# EAGLE library part USB3090-30-A (library USB3090-30-A)
GLOBAL CONNECTOR TECHNOLOGY - USB3090-30-A - MICRO USB, 2.0 TYPE AB, RECEPTACLE, SMT Source: Datasheet
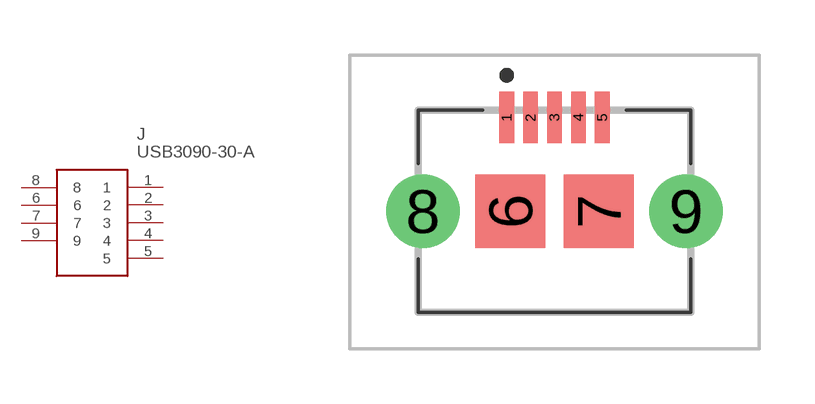
[diagram p0: symbol with the pads of USB309030A; footprint USB309030A]

Designator prefix J

## USB3090-30-A (Description: GLOBAL CONNECTOR TECHNOLOGY - USB3090-30-A - MICRO USB, 2.0 TYPE AB, RECEPTACLE, SMT; Height: 2.7mm; Manufacturer_Name: GCT (GLOBAL CONNECTOR TECHNOLOGY); Manufacturer_Part_Number: USB3090-30-A; Mouser_Part_Number: 640-USB3090-30-A; Mouser_Price-Stock: https://www.mouser.co.uk/ProductDetail/GCT/USB3090-30-A?qs=KUoIvG%2F9IlYVKroKzb3i8Q%3D%3D)  [USB309030A]
1  1
2  2
3  3
4  4
5  5
6  6
7  7
8  8
9  9

## Footprint USB309030A (pad centres in mm)
USB3090-30-A-2
smd 0.4 x 1.4: 1 -1.3,2.55; 2 -0.65,2.55; 3 0,2.55; 4 0.65,2.55; 5 1.3,2.55
smd 1.9 x 2: 6 -1.2,0; 7 1.2,0
drill 1.329 pad 1.993: 8 -3.575,0; 9 3.575,0